# Altium schematic symbol library BC817_215.SchLib: 1 symbol
Pins are listed as number, name and electrical type; pins without a type are passive.

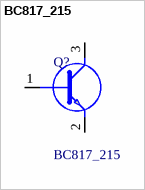
[diagram p0: symbol BC817_215]

## BC817_215
designator Q?
BC817; BC817W; BC337 - 45 V, 500 mA NPN general-purpose transistors; Manufacturer_Name: Nexperia; Manufacturer_Part_Number: BC817,215; Geometry.Height: 1.1mm; Mouser Part Number: 771-BC817-T/R; Mouser Price/Stock: https://www.mouser.co.uk/ProductDetail/Nexperia/BC817215?qs=me8TqzrmIYXz7pTxqNMGNQ%3D%3D; Datasheet Link: https://assets.nexperia.com/documents/data-sheet/BC817_SER.pdf
footprint SOT95P230X110-3N
pins: 1 B, 2 E, 3 C